# Altium schematic symbol library ABS07-32.768KHZ-T.SchLib: 1 symbol
Pins are listed as number, name and electrical type; pins without a type are passive.

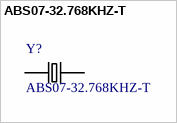
[diagram p0: symbol ABS07-32.768KHZ-T]

## ABS07-32.768KHZ-T
designator Y?
/ ABS07 Series 32.768 kHz Â±20 ppm 12.5 pF -40 to +85 Â°C SMT Low Profile Crystal /; MF: Abracon; Package: SMD-2 Abracon LLC; Availability: Unavailable; MP: ABS07-32.768KHZ-T; Price: None; SnapEDA_Link: https://www.snapeda.com/parts/ABS07-32.768KHZ-T/Abracon%20LLC/view-part/?ref=snap; Value: *
footprint *XTAL_ABS07-32.768KHZ-T
pins: 1, 2